# EAGLE library part PMOD (library Strutz Electronic Industries)
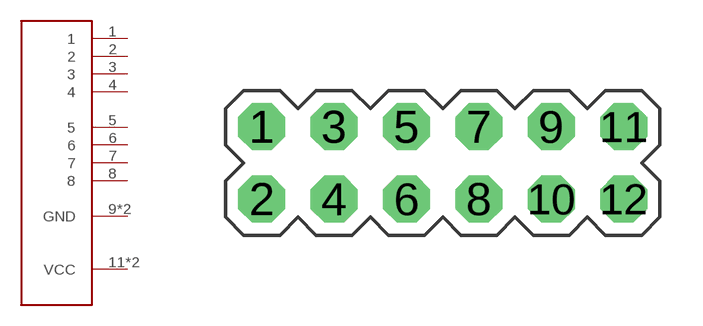
[diagram p27: symbol with the pads of 2X6; footprint 2X6]

Designator prefix -

## PMOD  [2X6]
1  1
2  2
3  3
4  4
5  5
6  6
7  7
8  8
9  GND
10  GND
11  VCC
12  VCC

## Footprint 2X6 (pad centres in mm)
drill 1.1 octagon: 1 -6.35,1.27; 2 -6.35,-1.27; 3 -3.81,1.27; 4 -3.81,-1.27; 5 -1.27,1.27; 6 -1.27,-1.27; 7 1.27,1.27; 8 1.27,-1.27; 9 3.81,1.27; 10 3.81,-1.27; 11 6.35,1.27; 12 6.35,-1.27